# Altium footprint library RESISTOR.PcbLib: 6 footprints
Each footprint in its own frame and in the unit in brackets; x right, y up, seen from the top. Pads: shape width x height; smd on the part's side, far side on the other; paste and mask are expansions set on the pad; w line width, h text height; cw(c..) or ccw(c..) is an arc to the next point about the centre after c.
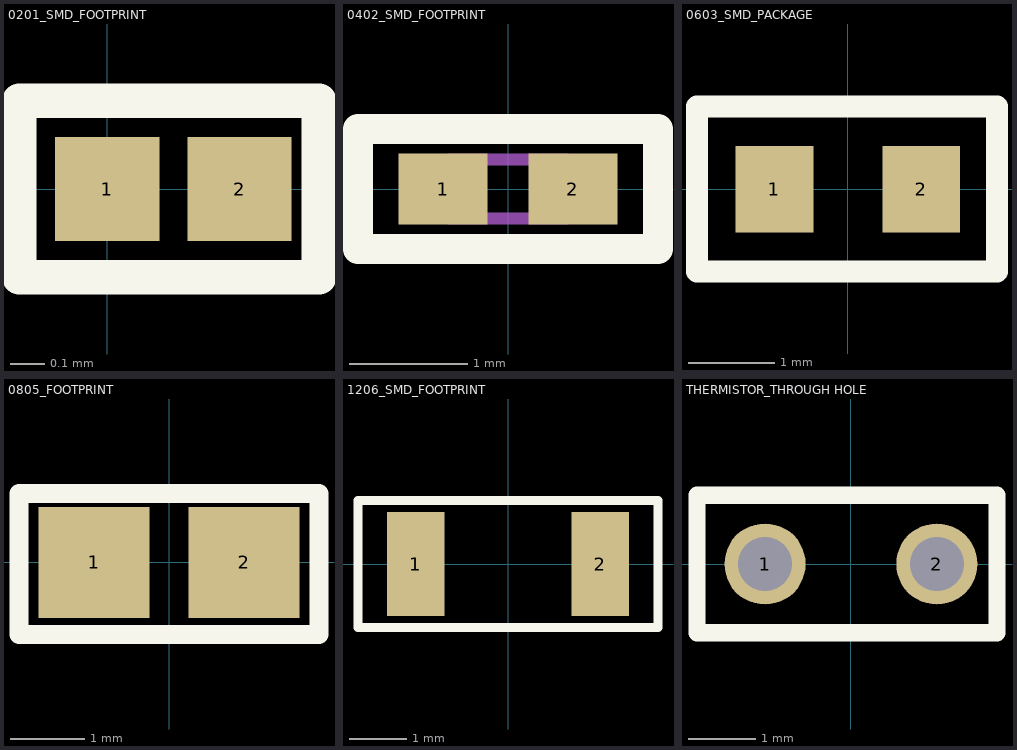
[diagram p0: the footprints below, top view; thin cyan lines are the x and y axes]

## 0201_SMD_FOOTPRINT [mm]
pads (2):
  rect 0.3x0.3 smd: 1(0,0) 2(0.381,0)
Top Overlay:
  lines w0.1: -0.254,-0.254 0.61,-0.254 0.61,0.254 -0.254,0.254 -0.254,-0.254
3D body "ERJ1GNF1202C.STEP": height 0.23, standoff 0, extent -0.122,-0.152 0.478,0.148

## 0402_SMD_FOOTPRINT [mm]
pads (2):
  rect 0.75x0.6 smd: 1(-0.55,0) 2(0.55,0)
Top Overlay:
  lines w0.254: -1.27,-0.508 -1.27,0.508 1.27,0.508 1.27,-0.508 -1.27,-0.508
Top Courtyard:
  lines w0.1: -0.5,-0.25 0.5,-0.25 0.5,0.25 -0.5,0.25 -0.5,-0.25
Mechanical 20:
  lines w0.05: -1.175,-0.55 1.175,-0.55 1.175,0.55 -1.175,0.55 -1.175,-0.55
3D body "ERJU02F3600X.STEP": height 0.35, standoff 0, extent -0.424,-0.25 0.576,0.25

## 0603_SMD_PACKAGE [mm]
pads (2):
  rect 0.9x1 smd paste-2539.97: 1(-0.85,0) 2(0.85,0)
Top Overlay:
  lines w0.254: -1.747,-0.951 -1.747,0.96 1.726,0.96 1.726,-0.951 -1.747,-0.951
Top Paste:
  region: 0.4,-0.5 0.4,0.5 1.3,0.5 1.3,-0.5
  region: -1.3,-0.5 -1.3,0.5 -0.4,0.5 -0.4,-0.5
3D body "RC0603FR-7W1KL.STEP": height 0.81, standoff 0.01, extent -0.775,-0.432 0.825,0.468

## 0805_FOOTPRINT [mm]
pads (2):
  rect 1.5x1.5 smd paste-2539.97: 1(-1.016,0) 2(1.016,0)
Top Overlay:
  lines w0.254: -2.032,-0.976 -2.032,0.935 2.032,0.935 2.032,-0.976 -2.032,-0.976
Top Paste:
  region: 0.566,-0.5 0.566,0.5 1.466,0.5 1.466,-0.5
  region: -1.466,-0.5 -1.466,0.5 -0.566,0.5 -0.566,-0.5
3D body "ERJ-B3CFR12V.STEP": height 0.5, standoff 0, extent -0.984,-0.625 1.016,0.625

## 1206_SMD_FOOTPRINT [mm]
pads (2):
  rect 1x1.8 smd: 1(-1.6,0) 2(1.6,0)
Top Overlay:
  lines w0.15: -2.6,-1.1 -2.6,1.1 2.6,1.1 2.6,-1.1 -2.6,-1.1
3D body "ERJ-U08J105V.STEP": height 0.6, standoff 0, extent -1.625,-0.825 1.575,0.775

## THERMISTOR_THROUGH HOLE [mm] "103AT2 - 10kOhm"
pads (2):
  round 1.2 hole 0.8 paste-2539.97: 1(-1.27,0) 2(1.27,0)
Top Overlay:
  lines w0.254: -2.275,-1.016 -2.275,1.016 2.159,1.016 2.159,-1.016 -2.275,-1.016